# Altium schematic symbol library FSAE_Analog_to_CAN_Converter.SchLib: 14 symbols
Pins are listed as number, name and electrical type; pins without a type are passive.

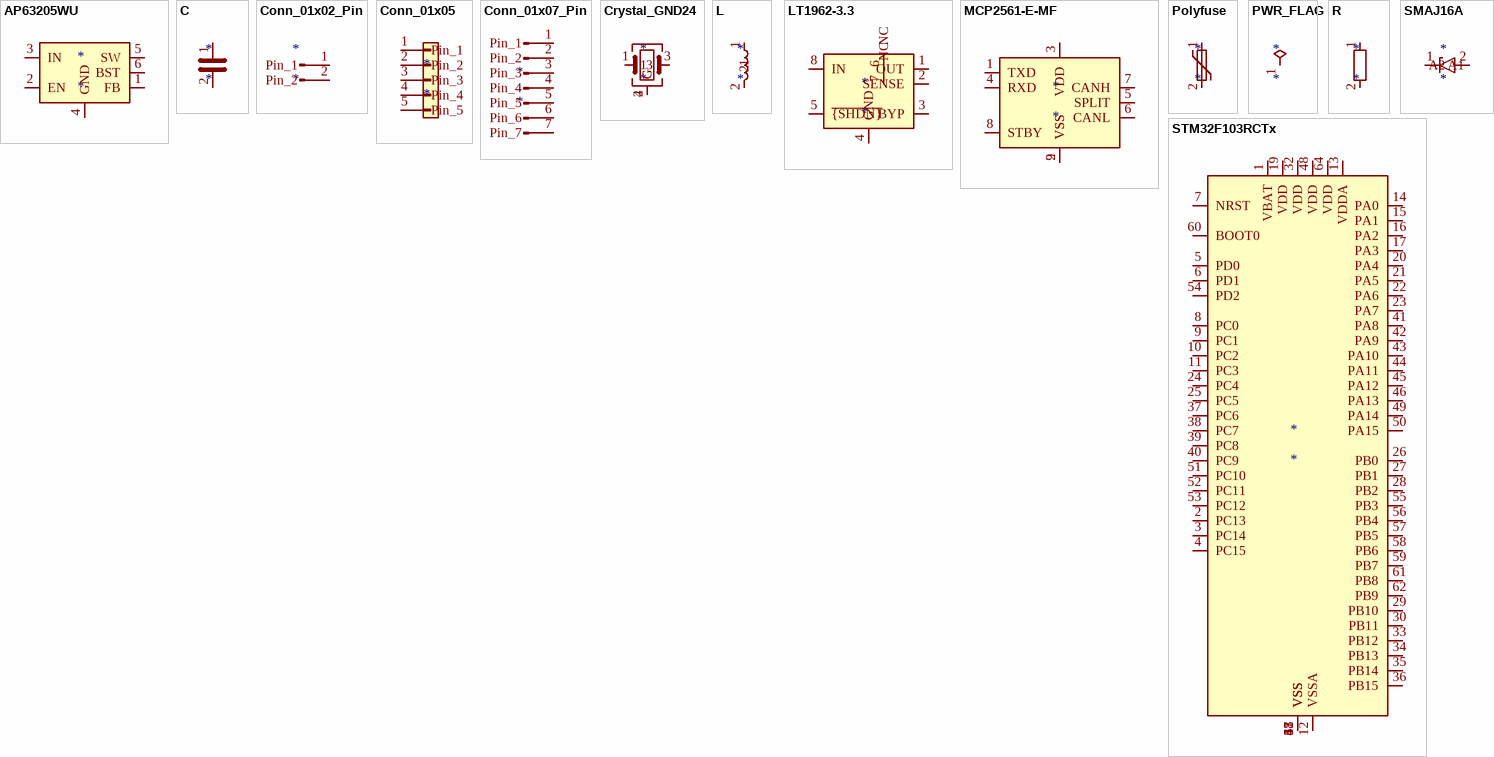
[diagram p0: symbols AP63205WU to STM32F103RCTx]

## AP63205WU
designator *
pins: 1 FB, 2 EN, 3 IN, 4 GND, 5 SW, 6 BST

## C
designator *
pins: 1, 2

## Conn_01x02_Pin
designator *
pins: 1 Pin_1, 2 Pin_2

## Conn_01x05
designator *
pins: 1 Pin_1, 2 Pin_2, 3 Pin_3, 4 Pin_4, 5 Pin_5

## Conn_01x07_Pin
designator *
pins: 1 Pin_1, 2 Pin_2, 3 Pin_3, 4 Pin_4, 5 Pin_5, 6 Pin_6, 7 Pin_7

## Crystal_GND24
designator *
pins: 1, 2 G, 3, 4 G

## L
designator *
pins: 1, 2

## LT1962-3.3
designator *
pins: 1 OUT, 2 SENSE, 3 BYP, 4 GND, 5 ~{{SHDN}}, 6 NC, 7 NC, 8 IN

## MCP2561-E-MF
designator *
pins: 1 TXD, 2 VSS, 3 VDD, 4 RXD, 5 SPLIT, 6 CANL, 7 CANH, 8 STBY, 9 VSS

## Polyfuse
designator *
pins: 1, 2

## PWR_FLAG
designator *  (graphical)
pins: 1

## R
designator *
pins: 1, 2

## SMAJ16A
designator *
pins: 1 A1, 2 A2

## STM32F103RCTx
designator *
pins: 1 VBAT, 2 PC13, 3 PC14, 4 PC15, 5 PD0, 6 PD1, 7 NRST, 8 PC0, 9 PC1, 10 PC2, 11 PC3, 12 VSSA, 13 VDDA, 14 PA0, 15 PA1, 16 PA2, 17 PA3, 18 VSS, 19 VDD, 20 PA4, 21 PA5, 22 PA6, 23 PA7, 24 PC4, 25 PC5, 26 PB0, 27 PB1, 28 PB2, 29 PB10, 30 PB11, 31 VSS, 32 VDD, 33 PB12, 34 PB13, 35 PB14, 36 PB15, 37 PC6, 38 PC7, 39 PC8, 40 PC9, 41 PA8, 42 PA9, 43 PA10, 44 PA11, 45 PA12, 46 PA13, 47 VSS, 48 VDD, 49 PA14, 50 PA15, 51 PC10, 52 PC11, 53 PC12, 54 PD2, 55 PB3, 56 PB4, 57 PB5, 58 PB6, 59 PB7, 60 BOOT0, 61 PB8, 62 PB9, 63 VSS, 64 VDD